# EAGLE library part AD5200 (library barthess)
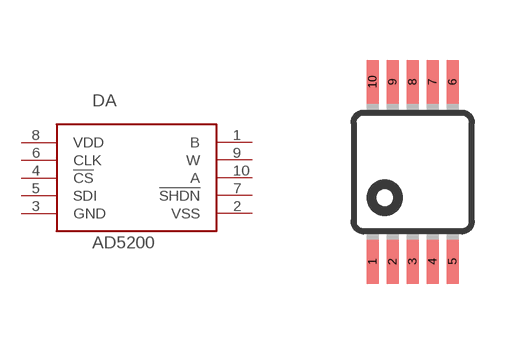
[diagram p32: symbol with the pads of MSOP10; footprint MSOP10]

Designator prefix DA

## AD5200  [MSOP10]
1  B
2  VSS
3  GND
4  !CS
5  SDI
6  CLK
7  !SHDN
8  VDD
9  W
10  A

## Footprint MSOP10 (pad centres in mm)
smd 0.3 x 1.1: 1 -1,-2.25; 2 -0.5,-2.25; 3 0,-2.25; 4 0.5,-2.25; 5 1,-2.25; 6 1,2.25; 7 0.5,2.25; 8 0,2.25; 9 -0.5,2.25; 10 -1,2.25